# EAGLE library part 61308021121 (library Board-to-Board (rev18a))
WR-PHD 2.54mm Dual Pin Heater, 80 Pins =>Code : Con_BTB_PHD_2.54_2_61308021121 <http://katalog.we-online.de/media/images/eican/Con_BTB_PHD_2.54_2_6130xx21121_pf2.jpg> Details see: http://katalog.we-online.de/en/em/613_0xx_211_21 Created 2014-05-29, Karrer Zheng 2014 (C) Würth Elektronik
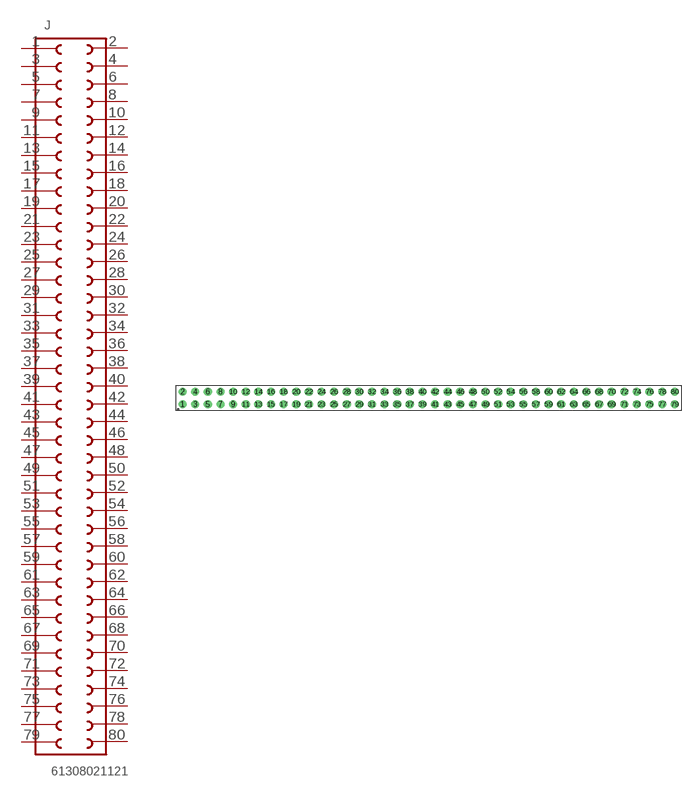
[diagram p38: symbol with the pads of 61308021121; footprint 61308021121]

Designator prefix J

## 61308021121  [61308021121]
1  1  pas
2  80  pas
3  2  pas
4  79  pas
5  3  pas
6  78  pas
7  4  pas
8  77  pas
9  5  pas
10  76  pas
11  6  pas
12  75  pas
13  7  pas
14  74  pas
15  8  pas
16  73  pas
17  9  pas
18  72  pas
19  10  pas
20  71  pas
21  11  pas
22  70  pas
23  12  pas
24  69  pas
25  13  pas
26  68  pas
27  14  pas
28  67  pas
29  15  pas
30  66  pas
31  16  pas
32  65  pas
33  17  pas
34  64  pas
35  18  pas
36  63  pas
37  19  pas
38  62  pas
39  20  pas
40  61  pas
41  21  pas
42  60  pas
43  22  pas
44  59  pas
45  23  pas
46  58  pas
47  24  pas
48  57  pas
49  25  pas
50  56  pas
51  26  pas
52  55  pas
53  27  pas
54  54  pas
55  28  pas
56  53  pas
57  29  pas
58  52  pas
59  30  pas
60  51  pas
61  31  pas
62  50  pas
63  32  pas
64  49  pas
65  33  pas
66  48  pas
67  34  pas
68  47  pas
69  35  pas
70  46  pas
71  36  pas
72  45  pas
73  37  pas
74  44  pas
75  38  pas
76  43  pas
77  39  pas
78  42  pas
79  40  pas
80  41  pas

## Footprint 61308021121 (pad centres in mm)
WR-PHD 2.54mm Dual Pin Header, 80 Pins
drill 1.1: 1 -49.53,-1.27; 2 -49.53,1.27; 3 -46.99,-1.27; 4 -46.99,1.27; 5 -44.45,-1.27; 6 -44.45,1.27; 7 -41.91,-1.27; 8 -41.91,1.27; 9 -39.37,-1.27; 10 -39.37,1.27; 11 -36.83,-1.27; 12 -36.83,1.27; 13 -34.29,-1.27; 14 -34.29,1.27; 15 -31.75,-1.27; 16 -31.75,1.27; 17 -29.21,-1.27; 18 -29.21,1.27; 19 -26.67,-1.27; 20 -26.67,1.27; 21 -24.13,-1.27; 22 -24.13,1.27; 23 -21.59,-1.27; 24 -21.59,1.27; 25 -19.05,-1.27; 26 -19.05,1.27; 27 -16.51,-1.27; 28 -16.51,1.27; 29 -13.97,-1.27; 30 -13.97,1.27; 31 -11.43,-1.27; 32 -11.43,1.27; 33 -8.89,-1.27; 34 -8.89,1.27; 35 -6.35,-1.27; 36 -6.35,1.27; 37 -3.81,-1.27; 38 -3.81,1.27; 39 -1.27,-1.27; 40 -1.27,1.27; 41 1.27,-1.27; 42 1.27,1.27; 43 3.81,-1.27; 44 3.81,1.27; 45 6.35,-1.27; 46 6.35,1.27; 47 8.89,-1.27; 48 8.89,1.27; 49 11.43,-1.27; 50 11.43,1.27; 51 13.97,-1.27; 52 13.97,1.27; 53 16.51,-1.27; 54 16.51,1.27; 55 19.05,-1.27; 56 19.05,1.27; 57 21.59,-1.27; 58 21.59,1.27; 59 24.13,-1.27; 60 24.13,1.27; 61 26.67,-1.27; 62 26.67,1.27; 63 29.21,-1.27; 64 29.21,1.27; 65 31.75,-1.27; 66 31.75,1.27; 67 34.29,-1.27; 68 34.29,1.27; 69 36.83,-1.27; 70 36.83,1.27; 71 39.37,-1.27; 72 39.37,1.27; 73 41.91,-1.27; 74 41.91,1.27; 75 44.45,-1.27; 76 44.45,1.27; 77 46.99,-1.27; 78 46.99,1.27; 79 49.53,-1.27; 80 49.53,1.27